# Altium footprint library RPL_POWER2.PcbLib: 47 footprints (part 2 of 3)
Each footprint in its own frame and in the unit in brackets; x right, y up, seen from the top. Pads: shape width x height; smd on the part's side, far side on the other; paste and mask are expansions set on the pad; w line width, h text height; cw(c..) or ccw(c..) is an arc to the next point about the centre after c.
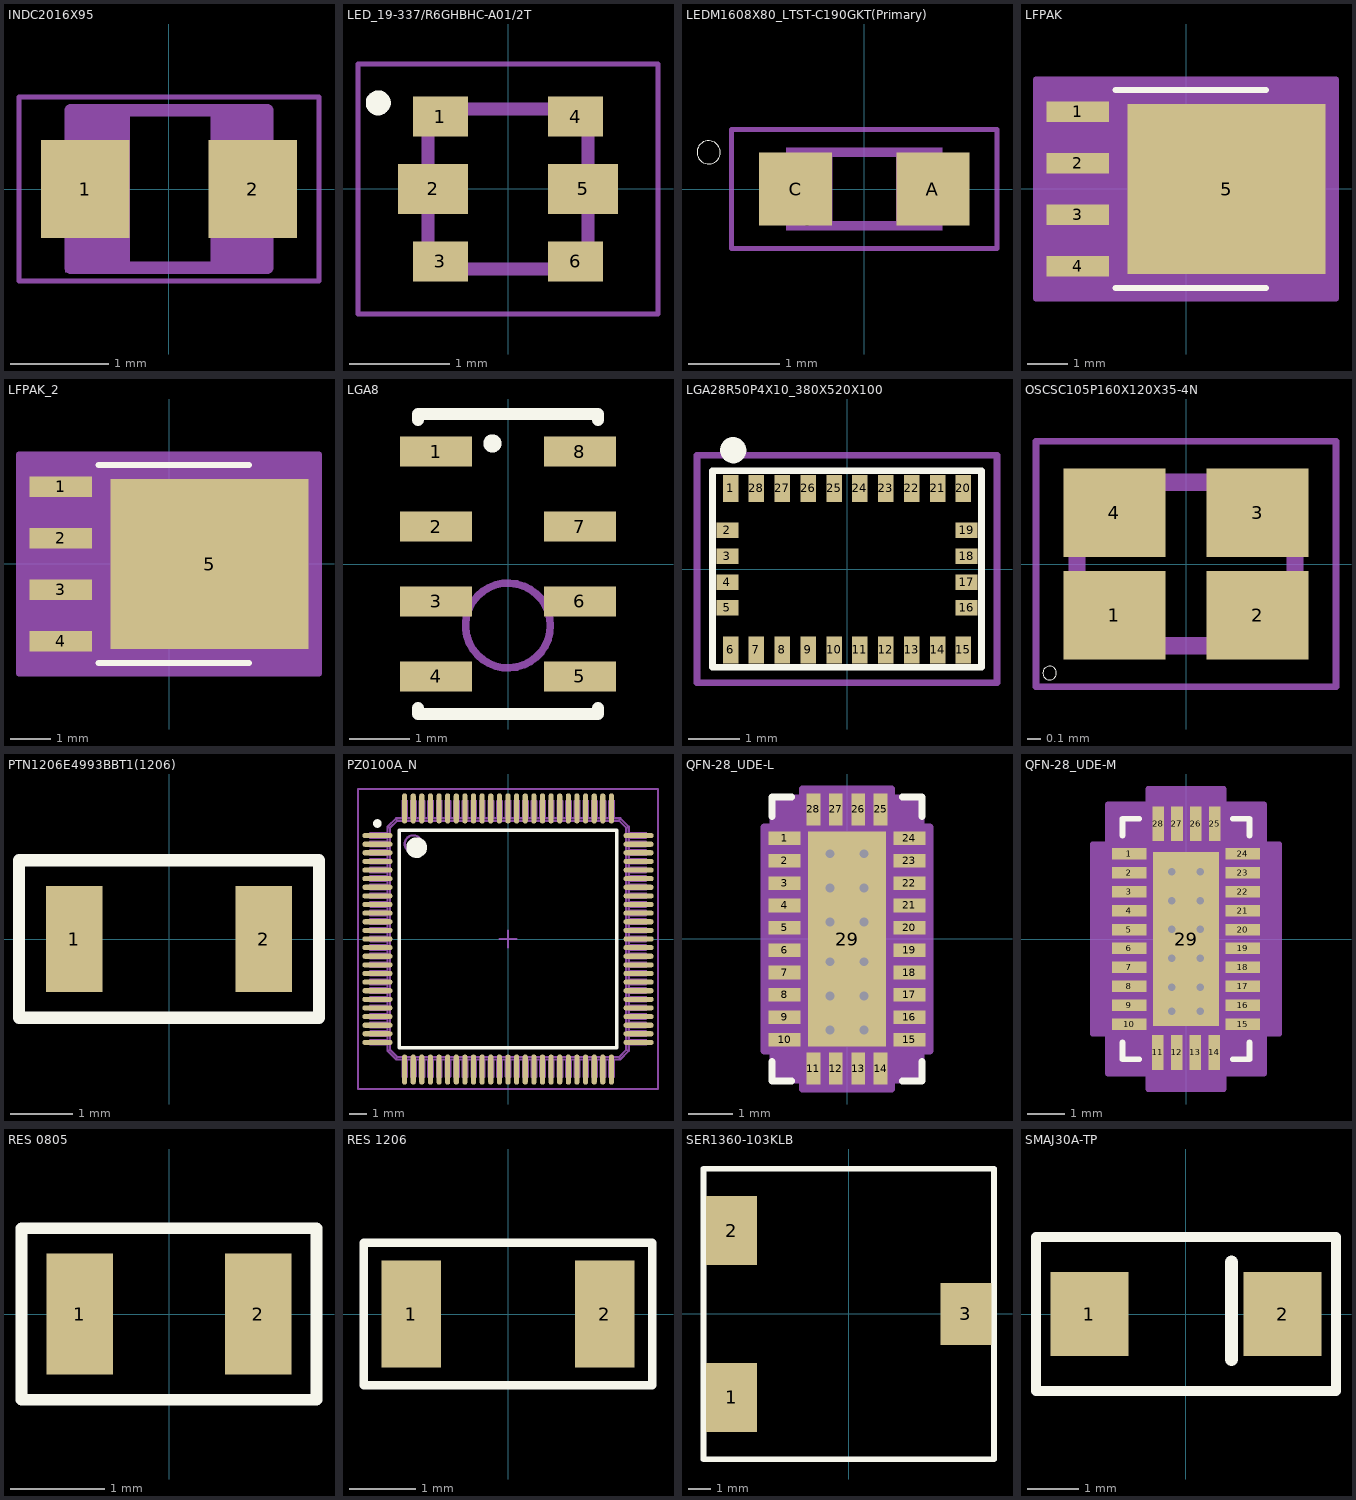
[diagram p1: the footprints below, top view; thin cyan lines are the x and y axes]

## INDC2016X95 [mm]
pads (2):
  rect 0.9x1 smd: 1(-0.85,0) 2(0.85,0)
Mechanical 1:
  region: -1.054,0.8 -0.4,0.8 -0.4,-0.843 -1.054,-0.843
  region: 0.423,0.8 1,0.8 1,-0.846 0.423,-0.846
  lines w0.051: -1.523,-0.933 1.523,-0.933 1.523,0.933 -1.523,0.933 -1.523,-0.933
  lines w0.127: -1,-0.8 1,-0.8 1,0.8 -1,0.8 -1,-0.8

## LED_19-337/R6GHBHC-A01/2T [mm]
pads (6):
  rect 0.55x0.4 smd: 1(-0.675,0.725) 3(-0.675,-0.725) 4(0.675,0.725) 6(0.675,-0.725)
  rect 0.7x0.5 smd: 2(-0.75,0) 5(0.75,0)
Top Overlay:
  circle w0.15: c-1.297,0.862 r0.05
Top Solder:
  region: -0.3,0.8 0.3,0.8 0.3,-0.801 -0.3,-0.801
Mechanical 1:
  lines w0.05: -1.5,-1.25 -1.5,1.25 1.5,1.25 1.5,-1.25 -1.5,-1.25
  lines w0.127: -0.8,-0.8 -0.8,0.8 0.8,0.8 0.8,-0.8 -0.8,-0.8

## LEDM1608X80_LTST-C190GKT(Primary) [mm]
pads (2):
  rect 0.8x0.8 smd: A(0.75,0) C(-0.75,0)
Top Overlay:
  circle w0: c-1.7,0.4 r0.127
Mechanical 1:
  circle w0.051: c-0.625,-0.35 r0.075
  region: 0.551,0.176 0.551,0.274 0.651,0.274 0.651,0.176
  region: 0.55,-0.275 0.55,-0.176 0.651,-0.176 0.651,-0.275
  region: 0.35,-0.275 0.35,0.275 0.575,0.275 0.575,-0.275
  region: 0.351,0.251 0.351,0.45 0.85,0.45 0.85,0.251
  region: 0.35,-0.45 0.35,-0.251 0.851,-0.251 0.851,-0.45
  region: -0.576,-0.451 -0.576,0.451 -0.351,0.451 -0.351,-0.451
  region: -0.851,0.249 -0.851,0.451 -0.551,0.451 -0.551,0.249
  region: -0.725,-0.45 -0.725,-0.4 -0.35,-0.4 -0.35,-0.45
  region: -0.601,-0.276 -0.601,-0.225 -0.55,-0.225 -0.55,-0.276
  region: -0.852,-0.452 -0.852,-0.249 -0.701,-0.249 -0.701,-0.452
  lines w0.05: -1.45,-0.65 -1.45,0.65 1.45,0.65 1.45,-0.65 -1.45,-0.65
  lines w0.051: 0.825,-0.275 cw(c0.825,0) 0.825,0.275
  lines w0.102: -0.8,-0.3 ccw(c-0.826,0) -0.8,0.3 ; -0.375,-0.4 0.35,-0.4 ; -0.35,0.4 0.35,0.4

## LFPAK [mil]
pads (5):
  rect 61x20 smd: 1(-105.5,75) 2(-105.5,25) 3(-105.5,-25) 4(-105.5,-75)
  rect 193x165 smd: 5(39.5,0)
Top Overlay:
  lines w6: -68.73,-96.5 78,-96.5 ; -68.73,96.5 78,96.5
Mechanical 15:
  region: 146,-106.5 -146,-106.5 -146,106.5 146,106.5
  lines w6: -146,-106.5 146,-106.5 146,106.5 -146,106.5 -146,-106.5
3D body "LFPAK.stp": height 43.1, standoff 0, extent -122,-96.5 122,96.5

## LFPAK_2 [mil]
pads (5):
  rect 61x20 smd: 1(-105.5,75) 2(-105.5,25) 3(-105.5,-25) 4(-105.5,-75)
  rect 193x165 smd: 5(39.5,0)
Top Overlay:
  lines w6: -68.73,-96.5 78,-96.5 ; -68.73,96.5 78,96.5
Mechanical 15:
  region: 146,-106.5 -146,-106.5 -146,106.5 146,106.5
  lines w6: -146,-106.5 -146,106.5 146,106.5 146,-106.5 -146,-106.5
3D body "LFPAK.stp": height 43.1, standoff 0, extent -122,-96.5 122,96.5

## LGA8 [mm]
pads (8):
  rect 1.2x0.5 smd: 1(-1.2,1.875) 2(-1.2,0.625) 3(-1.2,-0.625) 4(-1.2,-1.875) 5(1.2,-1.875) 6(1.2,-0.625) 7(1.2,0.625) 8(1.2,1.875)
Top Overlay:
  circle w0.203: c-0.26,2.01 r0.05
  lines w0.203: -1.5,-2.4 -1.5,-2.5 1.5,-2.5 1.5,-2.4 ; -1.5,2.4 -1.5,2.5 1.5,2.5 1.5,2.4
Mechanical 1:
  circle w0.127: c0,-1.025 r0.707

## LGA28R50P4X10_380X520X100 [mm]
pads (28):
  rect 0.3x0.525 smd: 1(-2.25,1.563) 6(-2.25,-1.563) 7(-1.75,-1.563) 8(-1.25,-1.563) 9(-0.75,-1.563) 10(-0.25,-1.563) 11(0.25,-1.563) 12(0.75,-1.563) 13(1.25,-1.563) 14(1.75,-1.563) 15(2.25,-1.563) 20(2.25,1.563) 21(1.75,1.563) 22(1.25,1.563) 23(0.75,1.563) 24(0.25,1.563) 25(-0.25,1.563) 26(-0.75,1.563) 27(-1.25,1.563) 28(-1.75,1.563)
  rect 0.425x0.3 smd: 2(-2.313,0.75) 3(-2.313,0.25) 4(-2.313,-0.25) 5(-2.313,-0.75) 16(2.313,-0.75) 17(2.313,-0.25) 18(2.313,0.25) 19(2.313,0.75)
Top Overlay:
  circle w0.305: c-2.2,2.3 r0.1
  lines w0.127: -2.6,-1.9 2.6,-1.9 2.6,1.9 -2.6,1.9 -2.6,-1.9
Mechanical 1:
  lines w0.127: -2.9,-2.2 -2.9,2.2 2.9,2.2 2.9,-2.2 -2.9,-2.2

## OSCSC105P160X120X35-4N [mm]
pads (4):
  rect 0.75x0.65 smd: 1(-0.525,-0.375) 2(0.525,-0.375) 3(0.525,0.375) 4(-0.525,0.375)
Top Overlay:
  circle w0: c-1,-0.8 r0.05
Top Solder:
  region: 0.112,0.75 0.95,0.75 0.95,0 0.112,0
  region: 0.111,0 0.95,0 0.95,-0.832 0.111,-0.832
  region: -1.06,0 -0.1,0 -0.1,-0.837 -1.06,-0.837
  region: -1.059,0.75 -0.1,0.75 -0.1,0 -1.059,0
Mechanical 1:
  lines w0.05: -1.1,-0.9 -1.1,0.9 1.1,0.9 1.1,-0.9 -1.1,-0.9
  lines w0.127: -0.8,-0.6 -0.8,0.6 0.8,0.6 0.8,-0.6 -0.8,-0.6

## PTN1206E4993BBT1(1206) [mil]
pads (2):
  rect 35.98x67.01 smd: 1(-60,0) 2(60,0)
Top Overlay:
  lines w7.87: -95,-50 95,-50 95,50 -95,50 -95,8.54 -95,-50

## PZ0100A_N [mm]
pads (100):
  oval 1.75x0.3 smd paste+0 mask+0.051: 1(-7.575,6) 2(-7.575,5.5) 3(-7.575,5) 4(-7.575,4.5) 5(-7.575,4) 6(-7.575,3.5) 7(-7.575,3) 8(-7.575,2.5) 9(-7.575,2) 10(-7.575,1.5) 11(-7.575,1) 12(-7.575,0.5) 13(-7.575,0) 14(-7.575,-0.5) 15(-7.575,-1) 16(-7.575,-1.5) 17(-7.575,-2) 18(-7.575,-2.5) 19(-7.575,-3) 20(-7.575,-3.5) 21(-7.575,-4) 22(-7.575,-4.5) 23(-7.575,-5) 24(-7.575,-5.5) 25(-7.575,-6) 51(7.575,-6) 52(7.575,-5.5) 53(7.575,-5) 54(7.575,-4.5) 55(7.575,-4) 56(7.575,-3.5) 57(7.575,-3) 58(7.575,-2.5) 59(7.575,-2) 60(7.575,-1.5) 61(7.575,-1) 62(7.575,-0.5) 63(7.575,0) 64(7.575,0.5) 65(7.575,1) 66(7.575,1.5) 67(7.575,2) 68(7.575,2.5) 69(7.575,3) 70(7.575,3.5) 71(7.575,4) 72(7.575,4.5) 73(7.575,5) 74(7.575,5.5) 75(7.575,6)
  oval 0.3x1.75 smd paste+0 mask+0.051: 26(-6,-7.575) 27(-5.5,-7.575) 28(-5,-7.575) 29(-4.5,-7.575) 30(-4,-7.575) 31(-3.5,-7.575) 32(-3,-7.575) 33(-2.5,-7.575) 34(-2,-7.575) 35(-1.5,-7.575) 36(-1,-7.575) 37(-0.5,-7.575) 38(0,-7.575) 39(0.5,-7.575) 40(1,-7.575) 41(1.5,-7.575) 42(2,-7.575) 43(2.5,-7.575) 44(3,-7.575) 45(3.5,-7.575) 46(4,-7.575) 47(4.5,-7.575) 48(5,-7.575) 49(5.5,-7.575) 50(6,-7.575) 76(6,7.575) 77(5.5,7.575) 78(5,7.575) 79(4.5,7.575) 80(4,7.575) 81(3.5,7.575) 82(3,7.575) 83(2.5,7.575) 84(2,7.575) 85(1.5,7.575) 86(1,7.575) 87(0.5,7.575) 88(0,7.575) 89(-0.5,7.575) 90(-1,7.575) 91(-1.5,7.575) 92(-2,7.575) 93(-2.5,7.575) 94(-3,7.575) 95(-3.5,7.575) 96(-4,7.575) 97(-4.5,7.575) 98(-5,7.575) 99(-5.5,7.575) 100(-6,7.575)
Top Overlay:
  circle w0.25: c-7.575,6.7 r0.125
  circle w0.6: c-5.3,5.3 r0.3
  lines w0.2: -6.3,-6.3 -6.3,6.3 6.3,6.3 6.3,-6.3 -6.3,-6.3
Mechanical 13:
  drawing of 1326 lines, arcs and shapes, not listed
Mechanical 15:
  lines w0.1: -0.5,0 0.5,0 ; 0,-0.5 0,0.5 ; -8.7,-8.7 -8.7,8.7 8.7,8.7 8.7,-8.7 -8.7,-8.7
3D body: height 0.25, standoff 0, extent 0,0 0.254,0.254

## QFN-28_UDE-L [mil]
pads (29):
  rect 28x12 smd: 1(-55,88.58) 2(-55,68.9) 3(-55,49.21) 4(-55,29.53) 5(-55,9.84) 6(-55,-9.84) 7(-55,-29.53) 8(-55,-49.21) 9(-55,-68.9) 10(-55,-88.58) 15(55,-88.58) 16(55,-68.9) 17(55,-49.21) 18(55,-29.53) 19(55,-9.84) 20(55,9.84) 21(55,29.53) 22(55,49.21) 23(55,68.9) 24(55,88.58)
  rect 12x27.99 smd: 11(-29.53,-114) 12(-9.84,-114) 13(9.84,-114) 14(29.53,-114) 25(29.53,114) 26(9.84,114) 27(-9.84,114) 28(-29.53,114)
  rect 69x189 smd paste-94: 29(0,0)
via 15,-80 diameter 19.68 hole 7.87
via -15,-50 diameter 19.68 hole 7.87
via -15,45 diameter 19.68 hole 7.87
via 15,75 diameter 19.68 hole 7.87
via 15,45 diameter 19.68 hole 7.87
via 15,45 diameter 19.68 hole 7.87
via 15,-50 diameter 19.68 hole 7.87
via -15,-80 diameter 19.68 hole 7.87
via -15,-20 diameter 19.68 hole 7.87
via 15,-20 diameter 19.68 hole 7.87
via -15,75 diameter 19.68 hole 7.87
via 15,15 diameter 19.68 hole 7.87
via -15,15 diameter 19.68 hole 7.87
Top Overlay:
  lines w6: -66,-107.68 -66,-125 -48.63,-125 ; -66,107.68 -66,125 -48.63,125 ; 48.63,-125 66,-125 66,-107.68 ; 48.63,125 66,125 66,107.68
Top Paste:
  region: 30.56,-35.44 -30.56,-35.44 -30.56,-90.56 30.56,-90.56
  region: 30.56,27.56 -30.56,27.56 -30.56,-27.56 30.56,-27.56
  region: 30.56,90.56 -30.56,90.56 -30.56,35.44 30.56,35.44
Mechanical 15:
  region: -39.37,-124 -65,-124 -65,-98.43 -73,-98.43 -73,98.43 -65,98.43 -65,124 -39.37,124 -39.37,132 39.37,132 39.37,124 65,124 65,98.43 73,98.43 73,-98.43 65,-98.43 65,-124 39.37,-124 39.37,-132 -39.37,-132
  lines w6: -73,-98.42 -73,98.43 -65,98.43 -65,124 -39.37,124 -39.37,132 39.37,132 39.37,124 65,124 65,98.43 73,98.43 73,-98.42 65,-98.42 65,-124 39.37,-124 39.37,-132 -39.37,-132 -39.37,-124 -65,-124 -65,-98.42 -73,-98.42
3D body "QFN-28_UDE-L.stp": height 55.1, standoff 0, extent -63,-122 63,122

## QFN-28_UDE-M [mil]
pads (29):
  rect 36x12 smd: 1(-59,88.58) 2(-59,68.9) 3(-59,49.21) 4(-59,29.53) 5(-59,9.84) 6(-59,-9.84) 7(-59,-29.53) 8(-59,-49.21) 9(-59,-68.9) 10(-59,-88.58) 15(59,-88.58) 16(59,-68.9) 17(59,-49.21) 18(59,-29.53) 19(59,-9.84) 20(59,9.84) 21(59,29.53) 22(59,49.21) 23(59,68.9) 24(59,88.58)
  rect 12x36 smd: 11(-29.53,-118) 12(-9.84,-118) 13(9.84,-118) 14(29.53,-118) 25(30,120) 26(10.31,120) 27(-9.37,120) 28(-29.06,120)
  rect 69x181 smd paste-94: 29(0,0)
via 15,70 diameter 19.68 hole 7.87
via 15,40 diameter 19.68 hole 7.87
via 15,-50 diameter 19.68 hole 7.87
via -15,70 diameter 19.68 hole 7.87
via -15,40 diameter 19.68 hole 7.87
via -15,10 diameter 19.68 hole 7.87
via -15,-50 diameter 19.68 hole 7.87
via -15,-75 diameter 19.68 hole 7.87
via -15,-20 diameter 19.68 hole 7.87
via 15,-20 diameter 19.68 hole 7.87
via 15,10 diameter 19.68 hole 7.87
via 15,-75 diameter 19.68 hole 7.87
Top Overlay:
  lines w6: -66,-107.68 -66,-125 -48.63,-125 ; -66,107.68 -66,125 -48.63,125 ; 48.63,-125 66,-125 66,-107.68 ; 48.63,125 66,125 66,107.68
Top Paste:
  region: 30.56,-35.44 -30.56,-35.44 -30.56,-90.56 30.56,-90.56
  region: 30.56,27.56 -30.56,27.56 -30.56,-27.56 30.56,-27.56
  region: 30.56,90.56 -30.56,90.56 -30.56,35.44 30.56,35.44
Mechanical 15:
  region: -39.37,-140 -81,-140 -81,-98.43 -97,-98.43 -97,98.43 -81,98.43 -81,140 -39.37,140 -39.37,156 39.37,156 39.37,140 81,140 81,98.43 97,98.43 97,-98.43 81,-98.43 81,-140 39.37,-140 39.37,-156 -39.37,-156
  lines w6: -97,-98.43 -97,98.43 -81,98.43 -81,140 -39.37,140 -39.37,156 39.37,156 39.37,140 81,140 81,98.43 97,98.43 97,-98.43 81,-98.43 81,-140 39.37,-140 39.37,-156 -39.37,-156 -39.37,-140 -81,-140 -81,-98.43 -97,-98.43
3D body "QFN-28_UDE-M.stp": height 55.1, standoff 0, extent -63,-122 63,122

## RES 0805 [mil]
pads (2):
  rect 28x51 smd: 1(-37.5,0) 2(37.5,0)
Top Overlay:
  lines w5: -62,-36 62,-36 62,36 -62,36 -62,0 -62,-36

## RES 1206 [mil]
pads (2):
  rect 35x63 smd: 1(-57,0) 2(57,0)
Top Overlay:
  lines w5: -85,-42 85,-42 85,42 -85,42 -85,0 -85,-42

## SER1360-103KLB [mm]
pads (3):
  rect 2.26x3.07 smd: 1(-5.2,-3.7) 2(-5.2,3.7)
  rect 2.26x2.77 smd: 3(5.2,0)
Top Overlay:
  lines w0.254: -6.45,-6.45 6.45,-6.45 6.45,6.45 -6.45,6.45 -6.45,-6.45

## SMAJ30A-TP [mm]
pads (2):
  rect 1.52x1.63 smd: 1(-1.88,0) 2(1.88,0)
Top Overlay:
  lines w0.2: -2.921,-1.5 -2.921,1.5 -1.88,1.5 2.921,1.5 2.921,-1.5 -2.921,-1.5
  lines w0.254: 0.889,-0.889 0.889,1.016